# EAGLE library part MAX6956AAI+ (library SKAARHOJ)
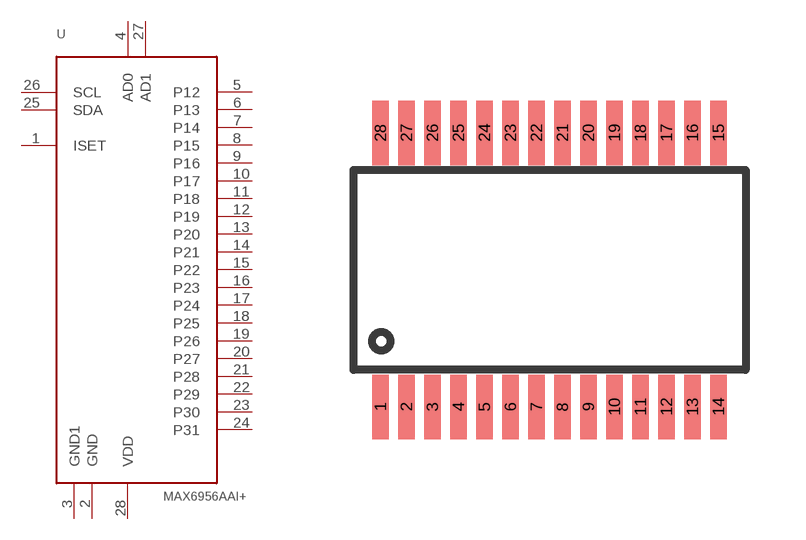
[diagram p96: symbol with the pads of SSOP28; footprint SSOP28]

Designator prefix -

## MAX6956AAI+  [SSOP28]
1  ISET  in
2  GND  pwr
3  GND1  pwr
4  AD0  in
5  P12
6  P13
7  P14
8  P15
9  P16
10  P17
11  P18
12  P19
13  P20
14  P21
15  P22
16  P23
17  P24
18  P25
19  P26
20  P27
21  P28
22  P29
23  P30
24  P31
25  SDA
26  SCL
27  AD1  in
28  VDD  pwr

## Footprint SSOP28 (pad centres in mm)
smd 0.42 x 1.62: 1 -4.225,-3.425; 2 -3.575,-3.425; 3 -2.925,-3.425; 4 -2.275,-3.425; 5 -1.625,-3.425; 6 -0.975,-3.425; 7 -0.325,-3.425; 8 0.325,-3.425; 9 0.975,-3.425; 10 1.625,-3.425; 11 2.275,-3.425; 12 2.925,-3.425; 13 3.575,-3.425; 14 4.225,-3.425; 15 4.225,3.425; 16 3.575,3.425; 17 2.925,3.425; 18 2.275,3.425; 19 1.625,3.425; 20 0.975,3.425; 21 0.325,3.425; 22 -0.325,3.425; 23 -0.975,3.425; 24 -1.625,3.425; 25 -2.275,3.425; 26 -2.925,3.425; 27 -3.575,3.425; 28 -4.225,3.425